# Altium footprint library 1N5339BG.PcbLib: 1 footprints
Each footprint in its own frame and in the unit in brackets; x right, y up, seen from the top. Pads: shape width x height; smd on the part's side, far side on the other; paste and mask are expansions set on the pad; w line width, h text height; cw(c..) or ccw(c..) is an arc to the next point about the centre after c.
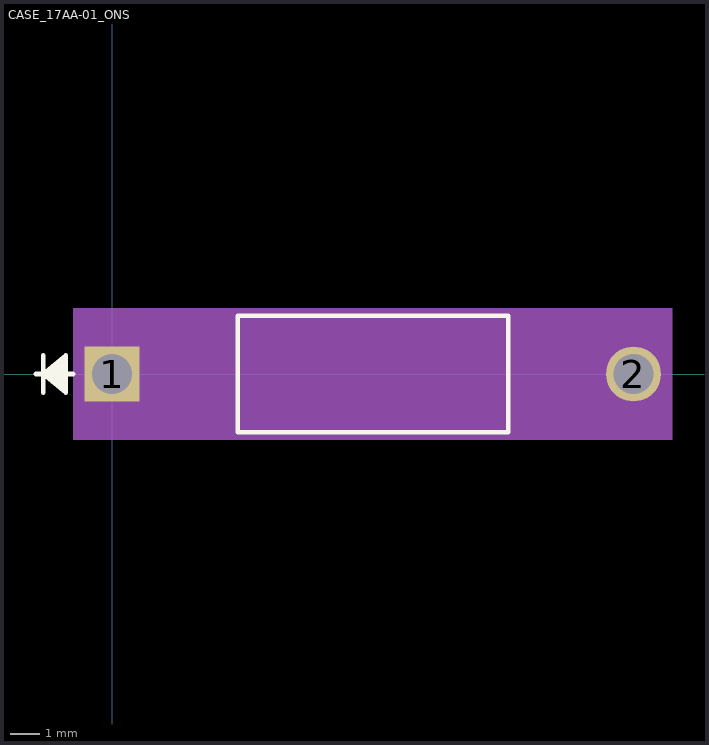
[diagram p0: the footprint, top view; thin cyan lines are the x and y axes]

## CASE_17AA-01_ONS [mil]
pads (2):
  rect 73x73 hole 53 mask+0: 1(0,0)
  round 73 hole 53 mask+0: 2(694,0)
Top Overlay:
  lines w6: -101.5,0 -51.5,0 ; -91.5,-25 -91.5,25 ; -61.5,-20 -91.5,0 ; -61.5,-15 -91.5,0 ; -61.5,-10 -91.5,0 ; -61.5,-5 -91.5,0 ; -61.5,5 -91.5,0 ; -61.5,10 -91.5,0 ; -61.5,15 -91.5,0 ; -61.5,20 -91.5,0 ; -91.5,0 -61.5,25 -61.5,-25 -91.5,0 ; 167,-77.5 527,-77.5 527,77.5 167,77.5 167,-77.5
Mechanical 5:
  region: 745.5,-87.5 -51.5,-87.5 -51.5,87.5 745.5,87.5
Mechanical 13:
  lines w1: -101.5,0 -51.5,0 ; -91.5,-25 -91.5,25 ; -61.5,-20 -91.5,0 ; -61.5,-15 -91.5,0 ; -61.5,-10 -91.5,0 ; -61.5,-5 -91.5,0 ; -61.5,5 -91.5,0 ; -61.5,10 -91.5,0 ; -61.5,15 -91.5,0 ; -61.5,20 -91.5,0 ; 0,0 172,0 ; 522,0 694,0 ; -91.5,0 -61.5,25 -61.5,-25 -91.5,0 ; 172,-72.5 522,-72.5 522,72.5 172,72.5 172,-72.5
Mechanical 15:
  region: 162,-46.5 -46.5,-46.5 -46.5,46.5 162,46.5 162,82.5 532,82.5 532,46.5 740.5,46.5 740.5,-46.5 532,-46.5 532,-82.5 162,-82.5
  lines w6: -46.5,-46.5 -46.5,46.5 162,46.5 162,82.5 532,82.5 532,46.5 740.5,46.5 740.5,-46.5 532,-46.5 532,-82.5 162,-82.5 162,-46.5 -46.5,-46.5
3D body "CASE_17AA-01_ONS.step": height 145.04, standoff -100, extent -21.5,-72.6 715.51,72.6